# Altium schematic symbol library relay_4ch.SchLib: 14 symbols
Pins are listed as number, name and electrical type; pins without a type are passive.

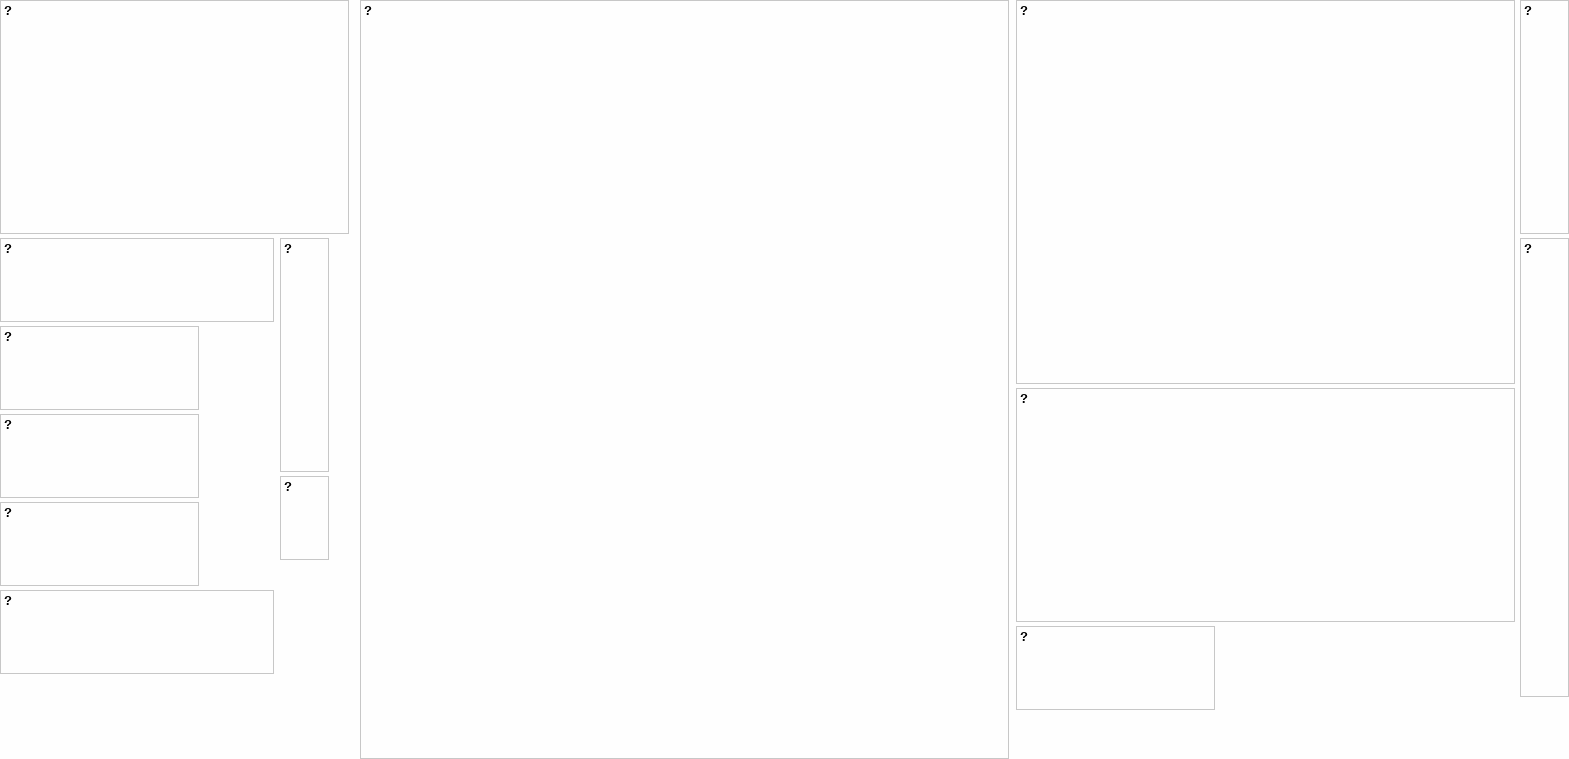
[diagram p0: symbol ?]

## ?
designator ?
4-pin Optocoupler DIP

## ?
designator ?
8-channel Darlington Driver

## ?
designator ?
5V SPDT Relay 10A

## ?
designator ?
Isolated DC-DC 3.3V to 5V 1W

## ?
designator ?
Metal Oxide Varistor 14mm

## ?
designator ?
5x20mm Glass Fuse

## ?
designator ?
X2 Safety Capacitor 100nF

## ?
designator ?
SMD Resistor 0805

## ?
designator ?
SMD LED 0805

## ?
designator ?
6-Pin Header 2.54mm

## ?
designator ?
2-Position Screw Terminal 5.08mm

## ?
designator ?
3-Position Screw Terminal 5.08mm

## ?
designator ?
Test Point

## ?
designator ?
Solder Jumper